# Altium footprint library DX07S016JA1R1500.PcbLib: 1 footprints
Each footprint in its own frame and in the unit in brackets; x right, y up, seen from the top. Pads: shape width x height; smd on the part's side, far side on the other; paste and mask are expansions set on the pad; w line width, h text height; cw(c..) or ccw(c..) is an arc to the next point about the centre after c.
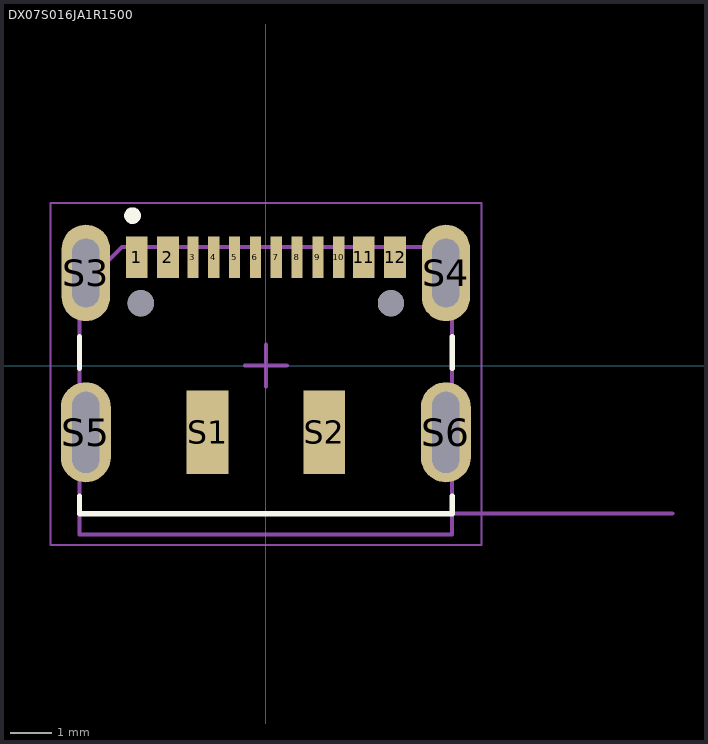
[diagram p0: the footprint, top view; thin cyan lines are the x and y axes]

## DX07S016JA1R1500 [mm]
pads (20):
  rect 0.52x1 smd: 1(-3.1,2.6) 2(-2.35,2.6) 11(2.35,2.6) 12(3.1,2.6)
  rect 0.27x1 smd: 3(-1.75,2.6) 4(-1.25,2.6) 5(-0.75,2.6) 6(-0.25,2.6) 7(0.25,2.6) 8(0.75,2.6) 9(1.25,2.6) 10(1.75,2.6)
  rect 1x2 smd: S1(-1.4,-1.6) S2(1.4,-1.6)
  oval 1.158x2.316 hole 0.65 slot 1.65 at 90 deg: S3(-4.32,2.225) S4(4.32,2.225)
  oval 1.2x2.4 hole 0.65 slot 1.95 at 90 deg: S5(-4.32,-1.6) S6(4.32,-1.6)
  round 0.63 hole 0.63 unplated: ""(-3,1.5) ""(3,1.5)
Top Overlay:
  circle w0.2: c-3.2,3.6 r0.1
  lines w0.127: -4.47,-3.13 -4.47,-3.55 4.47,-3.55 4.47,-3.13 ; -4.47,-0.07 -4.47,0.695 ; 4.47,-0.07 4.47,0.695
Mechanical 1:
  lines w0.1: 9.75,-3.55 4.47,-3.55 ; -4.47,-3.55 -4.47,1.83 -3.45,2.85 4.47,2.85 4.47,-3.55 ; -4.47,-3.55 -4.47,-4.05 4.47,-4.05 4.47,-3.55 ; -4.47,-3.55 4.47,-3.55
  text "PCB EDGE" at 5.5,-3.25 h0.61
  text ".Designator" at -3.275,-0.158 h0.65
Mechanical 2:
  lines w0.05: -5.17,-4.3 -5.17,3.9 5.17,3.9 5.17,-4.3 -5.17,-4.3
  lines w0.1: -0.5,0 0.5,0 ; 0,-0.5 0,0.5
3D body "DX07S016JA1R1500--3DModel-STEP-56544.STEP": height 3.31, standoff -1.05, extent -4.47,-3.982 4.47,2.918